# Altium footprint library TO.PcbLib: 8 footprints
Each footprint in its own frame and in the unit in brackets; x right, y up, seen from the top. Pads: shape width x height; smd on the part's side, far side on the other; paste and mask are expansions set on the pad; w line width, h text height; cw(c..) or ccw(c..) is an arc to the next point about the centre after c.
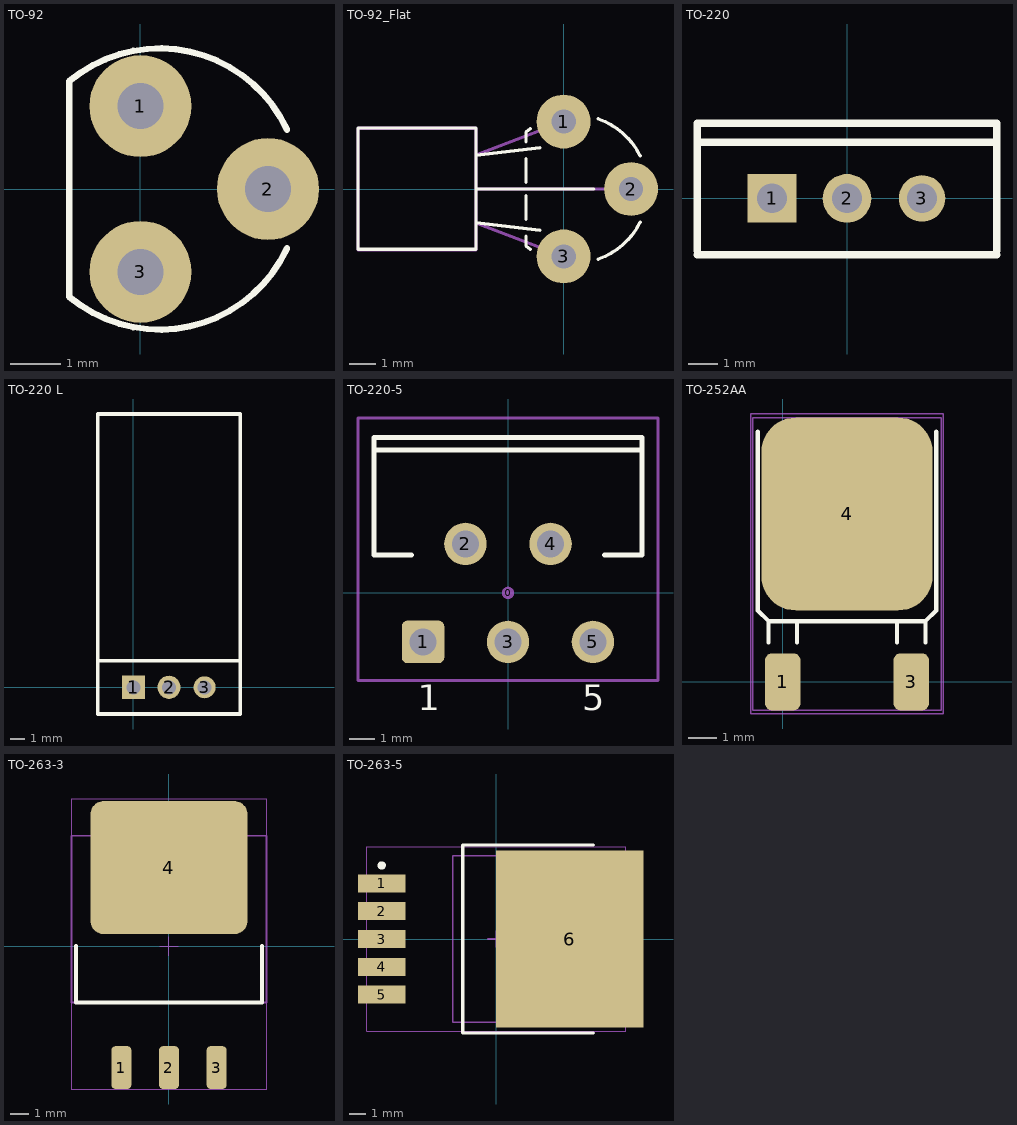
[diagram p0: the footprints below, top view; thin cyan lines are the x and y axes]

## TO-92 [mil]
height 397.64
pads (3):
  round 80 hole 36: 1(0,65) 2(100,0) 3(0,-65)
Top Overlay:
  lines w5: 114.91,-46.59 cw(c15,0) -55.86,-84.45 -55.86,84.45 cw(c15,0) 114.91,46.59
3D body "TO-92_A.stp": height 404.72, standoff -100, extent -54.52,-94.57 107.49,94.56

## TO-92_Flat [mil]
height 151.57
pads (3):
  round 80 hole 36: 1(0,100) 2(100,0) 3(0,-100)
Top Overlay:
  lines w5: -130.03,0 45,0 ; -130,-50 -35.14,-61.16 ; -130,50 -35.14,61.16 ; -55.86,-70 -55.86,-84.45 ccw(c15,0) -49.54,-89.37 ; -55.86,-45 -55.86,-10 ; -55.86,10 -55.86,45 ; -55.86,70 -55.86,84.45 cw(c15,0) -49.54,89.37 ; 51.42,-104.05 ccw(c15,0) 113.6,-49.3 ; 51.42,104.05 cw(c15,0) 113.6,49.3 ; -305.03,-89.45 -305.03,90.55 -130.03,90.55 -130.03,-89.45 -305.03,-89.45
Mechanical 13:
  lines w5: -130,-50.44 0,-100 ; -130,0.1 100,0 ; -130,50.44 0,100 ; -305,-90 -305,90 -130,90 -130,-90 -305,-90
3D body "TO-92_Flat.STEP": height 141.73, standoff -100, extent -307.08,-109.84 109.85,109.85

## TO-220 [mil]
pads (3):
  rect 65x65 hole 39.4: 1(-100,0)
  round 65 hole 39.4: 2(0,0)
  round 62 hole 39.4: 3(100,0)
Top Overlay:
  lines w10: -200,-75 200,-75 ; -200,-70 -200,100 200,100 200,-70 ; -200,75 200,75
3D body "TO-220-4.STEP": height 868.51, standoff -265.35, extent -200.79,-70.87 200.79,106.3

## TO-220 L [mil]
pads (3):
  rect 65x65 hole 39.4: 1(0,0)
  round 65 hole 39.4: 2(100,0)
  round 62 hole 39.4: 3(200,0)
Top Overlay:
  lines w10: -100,-75 300,-75 ; -100,-70 -100,767.72 300,767.72 300,-70 ; -100,75 300,75
3D body "TO220 L.step": height 177.17, standoff -118.11, extent -96.06,-7.87 297.64,767.88

## TO-220-5 [mm] "TO, Thru-Hole, Vertical, Heatsink Mounted; 5 Bent Staggered Leads; Pitch 1.7mm"
height 21.1
pads (6):
  round 0.5 on Mech15: 0(0,0)
  rrect25% 1.7x1.7 hole 1.092: 1(-3.4,-1.96)
  round 1.7 hole 1.092: 2(-1.7,1.96) 3(0,-1.96) 4(1.7,1.96) 5(3.4,-1.96)
Top Overlay:
  lines w0.2: -5.35,5.71 5.35,5.71 ; -3.854,1.51 -5.35,1.51 -5.35,6.21 5.35,6.21 5.35,1.51 3.854,1.51
  text "5" at 2.98,-4.685 h1.02
  text "1" at -3.62,-4.685 h1.02
Mechanical 15:
  lines w0.127: -6,-3.5 6,-3.5 6,7 -6,7 -6,-3.5
3D body "SW3dPS-TO220-5.STEP": height 20.99, standoff -3, extent -5.08,-2.16 5.08,6.08

## TO-252AA [mil]
pads (3):
  rrect40% 50x80 smd: 1(0,0) 3(180,0)
  rrect40% 240x270 smd: 4(90,235)
Top Overlay:
  lines w6: -35,350 -35,100 -20,85 ; -20,55 -20,85 ; 20,55 20,85 ; 160,55 160,85 ; 200,55 200,85 ; 215,350 215,100 200,85 ; -20,85 200,85
Mechanical 13:
  lines w2: -42,-40 -42,370 222,370 222,-40 -42,-40
Mechanical 14:
  lines w2: -45,-45 225,-45 225,375 -45,375 -45,-45
3D body "TO-252.STEP": height 90.56, standoff -4.52, extent -38.73,-31.77 218.75,359.5

## TO-263-3 [mil]
height 182.68
pads (4):
  rrect40% 42x90 smd: 1(-100,-255) 2(0,-255) 3(100,-255)
  rrect20% 330x280 smd: 4(0,165)
Top Overlay:
  lines w8: -195,0 -195,-118.11 195,-118.11 195,0
Mechanical 13:
  lines w2: -19.68,0 19.68,0 ; 0,-19.68 0,19.68
  lines w4: -204.72,-118.11 -204.72,231.89 204.72,231.89 204.72,-118.11 -204.72,-118.11
Mechanical 14:
  lines w2: -205,-300 -205,310 205,310 205,-300 -205,-300
3D body "SW3dPS-to-263.STEP": height 184.65, standoff 0, extent -199.99,-292.88 200.01,315

## TO-263-5 [mm]
height 4.57
pads (6):
  rect 2.9x1.1 smd: 1(-7,3.4) 2(-7,1.7) 3(-7,0) 4(-7,-1.7) 5(-7,-3.4)
  rect 9x10.8 smd: 6(4.5,0)
Top Overlay:
  circle w0.25: c-7,4.5 r0.125
  lines w0.2: 5.95,-5.75 -2.05,-5.75 -2.05,5.75 5.95,5.75
Mechanical 13:
  lines w0.1: -2.65,-5.1 6,-5.1 6,5.1 -2.65,5.1 -2.65,-5.1
Mechanical 15:
  lines w0.05: -7.925,-5.65 7.925,-5.65 7.925,5.65 -7.925,5.65 -7.925,-5.65
  lines w0.1: -0.5,0 0.5,0 ; 0,-0.5 0,0.5
3D body "SW3dPS-TO263-5.STEP": height 4.78, standoff -0.02, extent -7.835,-5 7.835,5